# EAGLE library part TMC236 (library _TMC)
TMC236 Stepper Motor Driver - up to 1.5A, w. protection and diagnostics
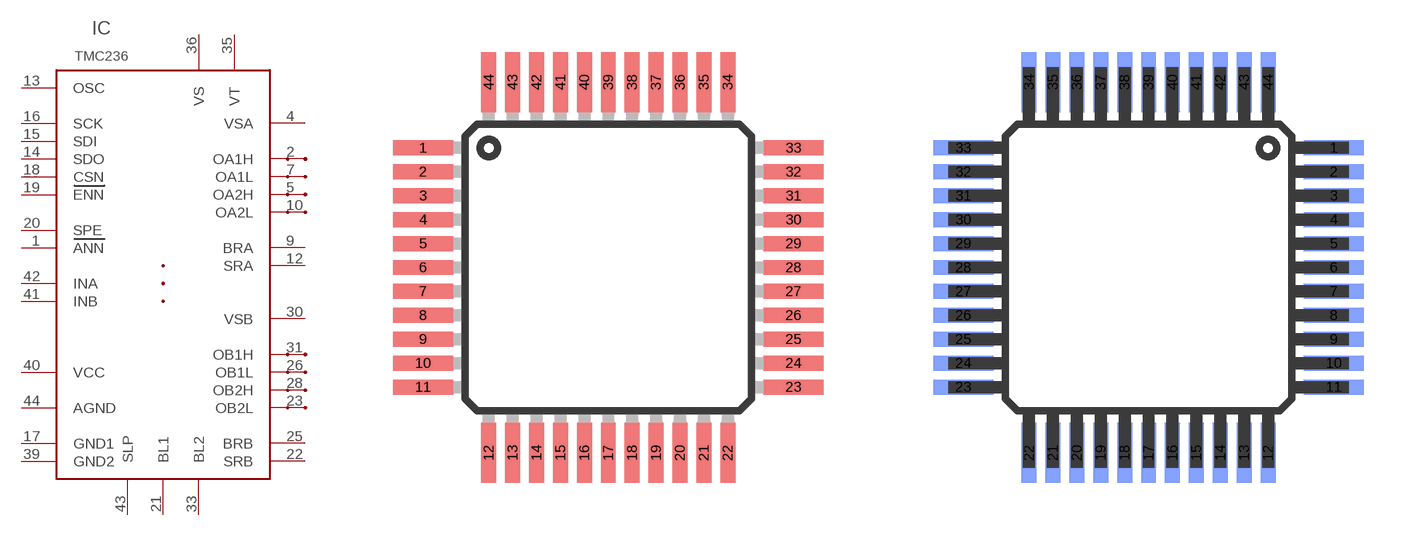
[diagram p1: symbol with the pads of QFP44; footprints QFP44, QFP44-M]

Designator prefix IC

## TMC236'  [QFP44]
1  ANN
2  OA1H
3  OA1H'
4  VSA
5  OA2H
6  OA2H'
7  OA1L
8  OA1L'
9  BRA
10  OA2L
11  OA2L'
12  SRA
13  OSC
14  SDO
15  SDI
16  SCK
17  GND1
18  CSN
19  ENN
20  SPE
21  BL1
22  SRB
23  OB2L
24  OB2L'
25  BRB
26  OB1L
27  OB1L'
28  OB2H
29  OB2H'
30  VSB
31  OB1H
32  OB1H'
33  BL2
34  P$1  nc
35  VT
36  VS
37  P$2  nc
38  P$3  nc
39  GND2  nc
40  VCC
41  INB
42  INA
43  SLP
44  AGND

## TMC236M  [QFP44-M]
Pads as for QFP44

## Footprint QFP44 (pad centres in mm)
Plastic Quad Flat Package
smd 2 x 0.5: 1 -6.2,4; 2 -6.2,3.2; 3 -6.2,2.4; 4 -6.2,1.6; 5 -6.2,0.8; 6 -6.2,0; 7 -6.2,-0.8; 8 -6.2,-1.6; 9 -6.2,-2.4; 10 -6.2,-3.2; 11 -6.2,-4; 23 6.2,-4; 24 6.2,-3.2; 25 6.2,-2.4; 26 6.2,-1.6; 27 6.2,-0.8; 28 6.2,0; 29 6.2,0.8; 30 6.2,1.6; 31 6.2,2.4; 32 6.2,3.2; 33 6.2,4
smd 0.5 x 2: 12 -4,-6.2; 13 -3.2,-6.2; 14 -2.4,-6.2; 15 -1.6,-6.2; 16 -0.8,-6.2; 17 0,-6.2; 18 0.8,-6.2; 19 1.6,-6.2; 20 2.4,-6.2; 21 3.2,-6.2; 22 4,-6.2; 34 4,6.2; 35 3.2,6.2; 36 2.4,6.2; 37 1.6,6.2; 38 0.8,6.2; 39 0,6.2; 40 -0.8,6.2; 41 -1.6,6.2; 42 -2.4,6.2; 43 -3.2,6.2; 44 -4,6.2

## Footprint QFP44-M (pad centres in mm)
Plastic Quad Flat Package Bottom-Layer (mirrowed)
smd 2 x 0.5 bottom: 1 6.2,4; 2 6.2,3.2; 3 6.2,2.4; 4 6.2,1.6; 5 6.2,0.8; 6 6.2,0; 7 6.2,-0.8; 8 6.2,-1.6; 9 6.2,-2.4; 10 6.2,-3.2; 11 6.2,-4; 23 -6.2,-4; 24 -6.2,-3.2; 25 -6.2,-2.4; 26 -6.2,-1.6; 27 -6.2,-0.8; 28 -6.2,0; 29 -6.2,0.8; 30 -6.2,1.6; 31 -6.2,2.4; 32 -6.2,3.2; 33 -6.2,4
smd 0.5 x 2 bottom: 12 4,-6.2; 13 3.2,-6.2; 14 2.4,-6.2; 15 1.6,-6.2; 16 0.8,-6.2; 17 0,-6.2; 18 -0.8,-6.2; 19 -1.6,-6.2; 20 -2.4,-6.2; 21 -3.2,-6.2; 22 -4,-6.2; 34 -4,6.2; 35 -3.2,6.2; 36 -2.4,6.2; 37 -1.6,6.2; 38 -0.8,6.2; 39 0,6.2; 40 0.8,6.2; 41 1.6,6.2; 42 2.4,6.2; 43 3.2,6.2; 44 4,6.2